# EAGLE library part PCIE-1X (library ts-pcie)
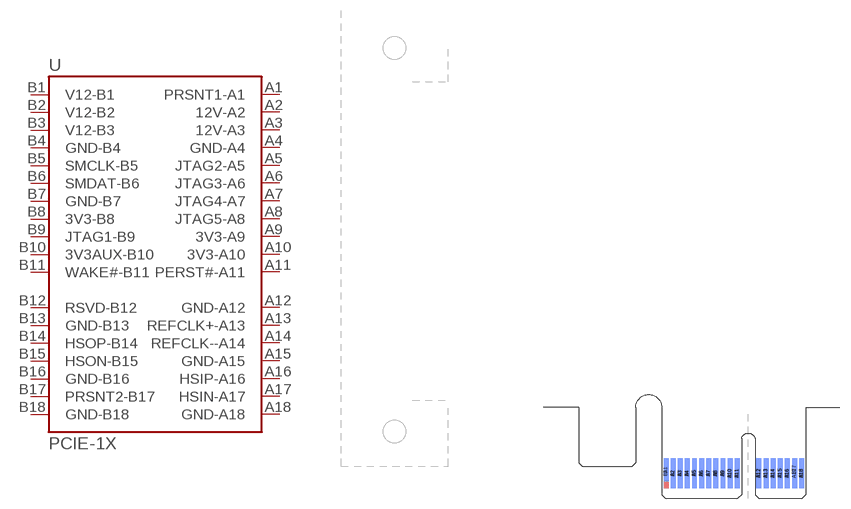
[diagram p0: symbol with the pads of PCIE-1X; footprint PCIE-1X]

Designator prefix -

## PCIE-1X  [PCIE-1X]
A1  PRSNT1-A1
A2  12V-A2
A3  12V-A3
A4  GND-A4
A5  JTAG2-A5
A6  JTAG3-A6
A7  JTAG4-A7
A8  JTAG5-A8
A9  3V3-A9
A10  3V3-A10
A11  PERST#-A11
A12  GND-A12
A13  REFCLK+-A13
A14  REFCLK--A14
A15  GND-A15
A16  HSIP-A16
A17  HSIN-A17
A18  GND-A18
B1  V12-B1
B2  V12-B2
B3  V12-B3
B4  GND-B4
B5  SMCLK-B5
B6  SMDAT-B6
B7  GND-B7
B8  3V3-B8
B9  JTAG1-B9
B10  3V3AUX-B10
B11  WAKE#-B11
B12  RSVD-B12
B13  GND-B13
B14  HSOP-B14
B15  HSON-B15
B16  GND-B16
B17  PRSNT2-B17
B18  GND-B18

## Footprint PCIE-1X (pad centres in mm)
smd 0.7 x 3.2 bottom: A1 45.6,4
smd 0.7 x 4.2 bottom: A2 46.6,3.5; A3 47.6,3.5; A4 48.6,3.5; A5 49.6,3.5; A6 50.6,3.5; A7 51.6,3.5; A8 52.6,3.5; A9 53.6,3.5; A10 54.6,3.5; A11 55.6,3.5; A12 58.65,3.5; A13 59.65,3.5; A14 60.65,3.5; A15 61.65,3.5; A16 62.65,3.5; A17 63.65,3.5; A18 64.65,3.5
smd 0.7 x 4.2: B1 45.6,3.5; B2 46.6,3.5; B3 47.6,3.5; B4 48.6,3.5; B5 49.6,3.5; B6 50.6,3.5; B7 51.6,3.5; B8 52.6,3.5; B9 53.6,3.5; B10 54.6,3.5; B11 55.6,3.5; B12 58.65,3.5; B13 59.65,3.5; B14 60.65,3.5; B15 61.65,3.5; B16 62.65,3.5; B18 64.65,3.5
smd 0.7 x 3.2: B17 63.65,4